# Altium footprint library bg_pcb.PcbLib: 61 footprints (part 4 of 4)
Each footprint in its own frame and in the unit in brackets; x right, y up, seen from the top. Pads: shape width x height; smd on the part's side, far side on the other; paste and mask are expansions set on the pad; w line width, h text height; cw(c..) or ccw(c..) is an arc to the next point about the centre after c.
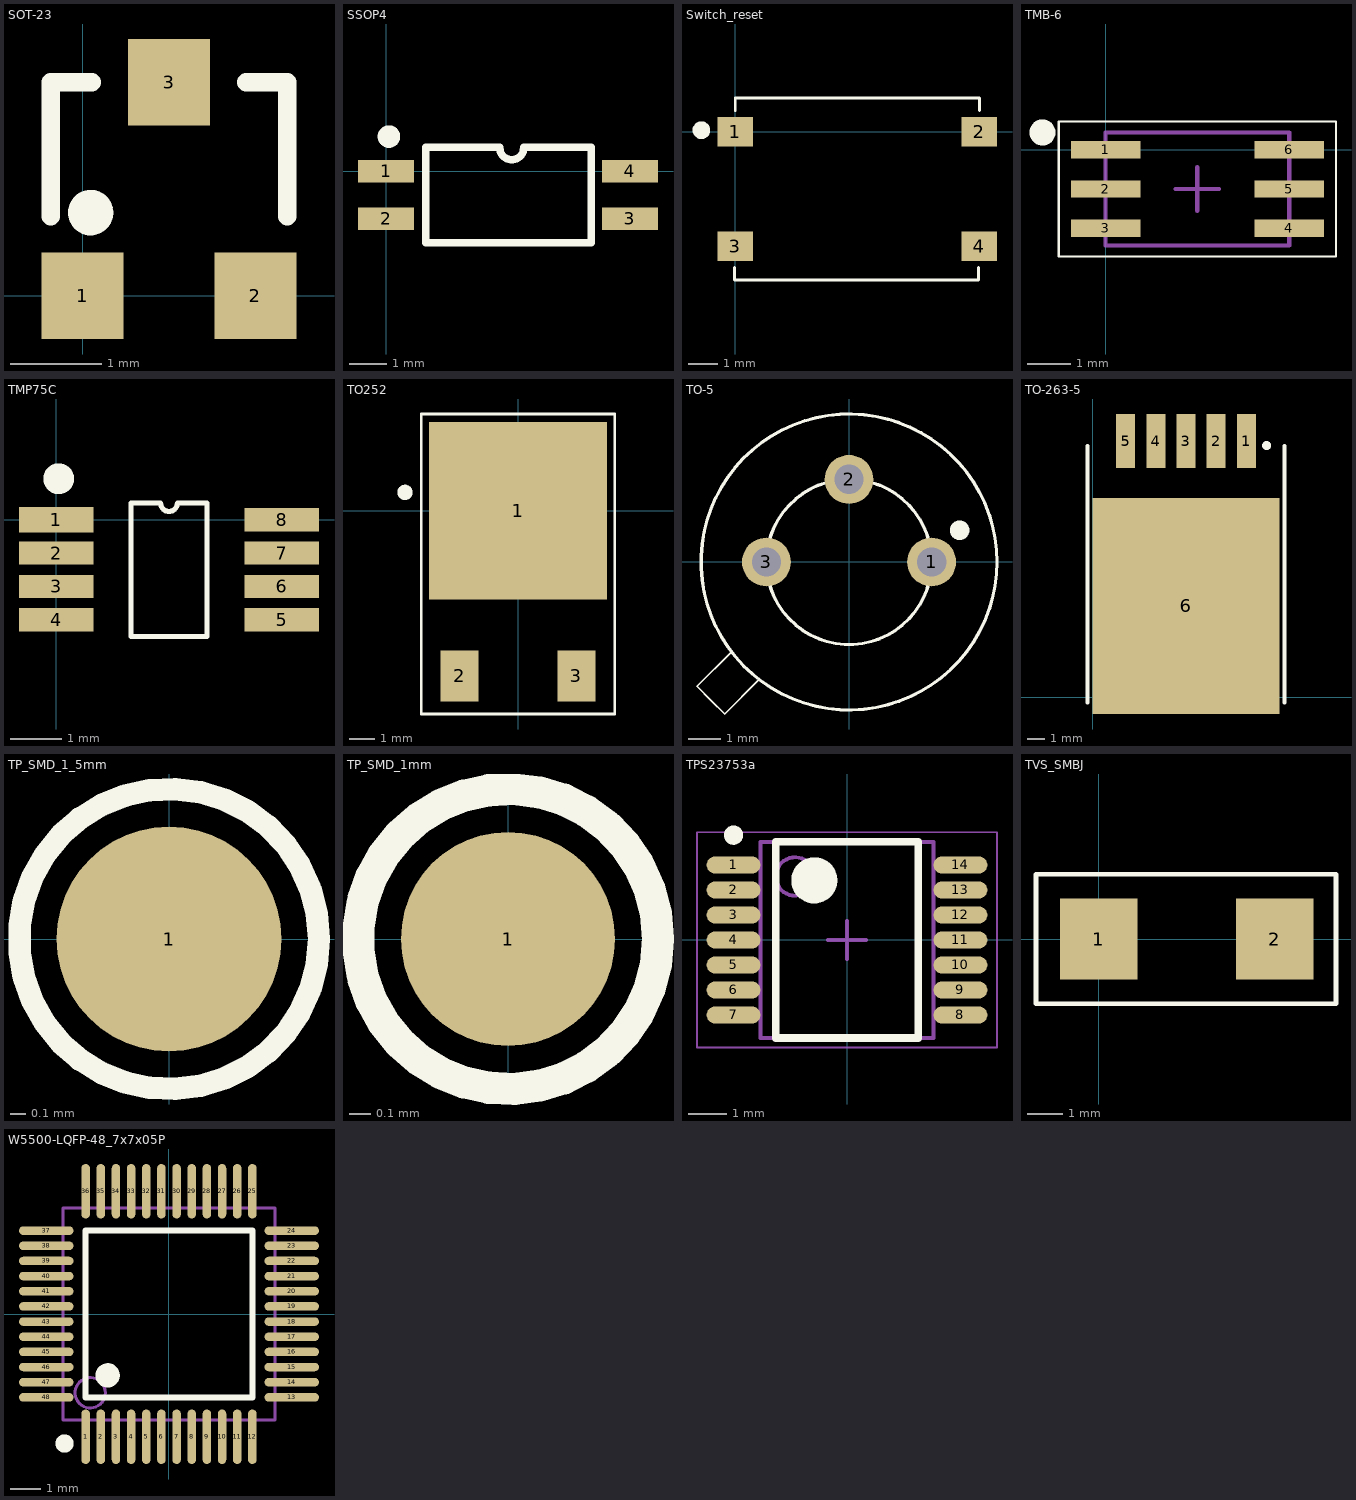
[diagram p3: the footprints below, top view; thin cyan lines are the x and y axes]

## SOT-23 [mm]
pads (3):
  rect 0.9x0.95 smd: 1(0,0) 2(1.9,0) 3(0.95,2.35)
Top Overlay:
  circle w0.25: c0.088,0.915 r0.125
  lines w0.2: -0.35,0.875 -0.35,2.35 0.1,2.35 ; 1.8,2.35 2.25,2.35 2.25,0.875

## SSOP4 [mm]
pads (4):
  rect 1.5x0.6 smd: 1(0,0) 2(0,-1.27) 3(6.5,-1.27) 4(6.5,0)
Top Overlay:
  circle w0.3: c0.075,0.925 r0.15
  lines w0.2: 3.033,0.625 ccw(c3.35,0.625) 3.668,0.625 ; 3.033,0.635 1.05,0.635 1.05,-1.905 5.475,-1.905 5.475,0.635 3.668,0.635

## Switch_reset [mm]
pads (4):
  rect 1.2x1 smd: 1(0,0) 2(8.3,0) 3(0,-3.9) 4(8.3,-3.9)
Top Overlay:
  circle w0.3: c-1.15,0.05 r0.15
  lines w0.1: -0.025,-4.625 -0.025,-5.05 8.275,-5.05 8.275,-4.625 ; 0,0.725 0,1.15 8.3,1.15 8.3,0.725

## TMB-6 [mm] "SON, 6-Leads, Body 2.60x3.80mm, Pitch 0.90mm, IPC Medium Density"
height 1.35
pads (6):
  rect 1.6x0.4 smd: 1(0,0) 2(0,-0.9) 3(0,-1.8) 4(4.22,-1.8) 5(4.22,-0.9) 6(4.22,0)
Top Overlay:
  circle w0.3: c-1.45,0.4 r0.15
  lines w0.05: -1.075,-2.45 -1.075,0.65 5.3,0.65 5.3,-2.45 -1.075,-2.45
Mechanical 13:
  lines w0.1: 0,-2.2 0,0.4 4.225,0.4 4.225,-2.2 0,-2.2
Mechanical 15:
  lines w0.1: 1.61,-0.9 2.61,-0.9 ; 2.11,-1.4 2.11,-0.4
3D body: height 1.35, standoff 0.1, extent 0.21,-2.2 4.01,0.4

## TMP75C [mm]
pads (8):
  rect 1.45x0.5 smd: 1(0,0)
  rect 1.45x0.45 smd: 2(0,-0.65) 3(0,-1.3) 4(0,-1.95) 5(4.4,-1.95) 6(4.4,-1.3) 7(4.4,-0.65) 8(4.4,0)
Top Overlay:
  circle w0.3: c0.05,0.8 r0.15
  lines w0.1: 1.46,-2.275 2.94,-2.275 2.94,0.325 2.362,0.325 cw(c2.2,0.325) 2.037,0.325 1.46,0.325 1.46,-2.275

## TO252 [mm]
pads (3):
  rect 7x7 smd: 1(0,0)
  rect 1.5x2 smd: 2(-2.3,-6.5) 3(2.3,-6.5)
Top Overlay:
  circle w0.3: c-4.45,0.725 r0.15
  lines w0.1: -3.81,-8.001 3.81,-8.001 3.81,3.81 -3.81,3.81 -3.81,-8.001

## TO-5 [mm] "RD-624"
pads (3):
  round 1.5 hole 0.9: 1(2.54,0) 2(0,2.54) 3(-2.54,0)
Top Overlay:
  circle w0.3: c3.4,0.975 r0.15
  circle w0.1: c0,0 r2.54
  circle w0.1: c0,0 r4.55
  lines w0.051: -3.625,-2.775 -4.675,-3.825 ; -2.775,-3.625 -3.825,-4.675 ; -4.675,-3.825 -4.25,-4.25 -3.825,-4.675 ; -4.675,-3.825 -4.675,-3.825 ; -3.825,-4.675 -3.825,-4.675

## TO-263-5 [mil]
pads (6):
  rect 42x120 smd: 1(340.94,568.43) 2(274.02,568.43) 3(207.09,568.43) 4(140.16,568.43) 5(73.23,568.43)
  rect 414x479.37 smd: 6(207.09,202.76)
Top Overlay:
  circle w9.84: c385.87,558.43 r4.92
  lines w7.87: -11.42,-12.44 -11.42,558.43 ; 425.59,-12.44 425.59,558.43

## TP_SMD_1_5mm [mm]
pads (1):
  round 1.5 smd paste-5: 1(0,0)
Top Overlay:
  circle w0.15: c0,0 r1

## TP_SMD_1mm [mm]
pads (1):
  round 1 smd paste-5: 1(0,0)
Top Overlay:
  circle w0.15: c0,0 r0.7

## TPS23753a [mm] "TSOP, 14-Leads, Body 5.00x4.40mm, Pitch 0.65mm, IPC Medium Density"
height 1.2
pads (14):
  oval 1.4x0.45 smd: 1(-2.95,1.95) 2(-2.95,1.3) 3(-2.95,0.65) 4(-2.95,0) 5(-2.95,-0.65) 6(-2.95,-1.3) 7(-2.95,-1.95) 8(2.95,-1.95) 9(2.95,-1.3) 10(2.95,-0.65) 11(2.95,0) 12(2.95,0.65) 13(2.95,1.3) 14(2.95,1.95)
Top Overlay:
  circle w0.6: c-0.85,1.55 r0.3
  circle w0.25: c-2.95,2.725 r0.125
  lines w0.2: -1.85,-2.55 1.85,-2.55 1.85,2.55 -1.85,2.55 -1.85,-2.55
Mechanical 13:
  circle w0.1: c-1.35,1.65 r0.5
  lines w0.1: -2.25,-2.55 2.25,-2.55 2.25,2.55 -2.25,2.55 -2.25,-2.55
Mechanical 15:
  lines w0.05: -3.9,-2.8 3.9,-2.8 3.9,2.8 -3.9,2.8 -3.9,-2.8
  lines w0.1: -0.5,0 0.5,0 ; 0,-0.5 0,0.5
3D body: height 1.2, standoff 0.25, extent -2.25,-2.55 2.25,2.55

## TVS_SMBJ [mm]
pads (2):
  rect 2.16x2.26 smd: 1(0,0) 2(4.9,0)
Top Overlay:
  lines w0.127: -1.75,-1.8 6.6,-1.8 6.6,1.8 -1.75,1.8 -1.75,-1.8

## W5500-LQFP-48_7x7x05P [mm]
pads (48):
  oval 0.28x1.8 smd mask+0.051: 1(-2.75,-4.05) 2(-2.25,-4.05) 3(-1.75,-4.05) 4(-1.25,-4.05) 5(-0.75,-4.05) 6(-0.25,-4.05) 7(0.25,-4.05) 8(0.75,-4.05) 9(1.25,-4.05) 10(1.75,-4.05) 11(2.25,-4.05) 12(2.75,-4.05) 25(2.75,4.05) 26(2.25,4.05) 27(1.75,4.05) 28(1.25,4.05) 29(0.75,4.05) 30(0.25,4.05) 31(-0.25,4.05) 32(-0.75,4.05) 33(-1.25,4.05) 34(-1.75,4.05) 35(-2.25,4.05) 36(-2.75,4.05)
  oval 1.8x0.28 smd mask+0.051: 13(4.05,-2.75) 14(4.05,-2.25) 15(4.05,-1.75) 16(4.05,-1.25) 17(4.05,-0.75) 18(4.05,-0.25) 19(4.05,0.25) 20(4.05,0.75) 21(4.05,1.25) 22(4.05,1.75) 23(4.05,2.25) 24(4.05,2.75) 37(-4.05,2.75) 38(-4.05,2.25) 39(-4.05,1.75) 40(-4.05,1.25) 41(-4.05,0.75) 42(-4.05,0.25) 43(-4.05,-0.25) 44(-4.05,-0.75) 45(-4.05,-1.25) 46(-4.05,-1.75) 47(-4.05,-2.25) 48(-4.05,-2.75)
Top Overlay:
  circle w0.3: c-3.45,-4.275 r0.15
  circle w0.4: c-2.025,-2.025 r0.2
  lines w0.2: -2.75,-2.75 2.75,-2.75 2.75,2.75 -2.75,2.75 -2.75,-2.75
Mechanical 13:
  circle w0.1: c-2.6,-2.6 r0.5
  lines w0.1: -3.5,-3.5 3.5,-3.5 3.5,3.5 -3.5,3.5 -3.5,-3.5